# Altium integrated library M80-5114242.IntLib: 1 symbol
Pins are listed as number, name and electrical type; pins without a type are passive.

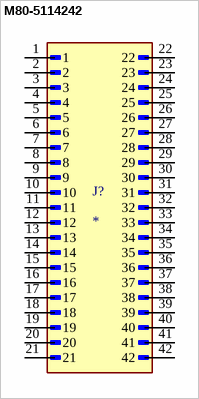
[diagram p0: symbol M80-5114242]

## M80-5114242
designator J?
MP: M80-5114242; Package: None; Price: None; Value: *; Availability: Unavailable
footprint HARWIN_M80-5114242
pins: 1, 2, 3, 4, 5, 6, 7, 8, 9, 10, 11, 12, 13, 14, 15, 16, 17, 18, 19, 20, 21, 22, 23, 24, 25, 26, 27, 28, 29, 30, 31, 32, 33, 34, 35, 36, 37, 38, 39, 40, 41, 42